# Altium footprint library CB3LV-3I-14M7456.PcbLib: 3 footprints
Each footprint in its own frame and in the unit in brackets; x right, y up, seen from the top. Pads: shape width x height; smd on the part's side, far side on the other; paste and mask are expansions set on the pad; w line width, h text height; cw(c..) or ccw(c..) is an arc to the next point about the centre after c.
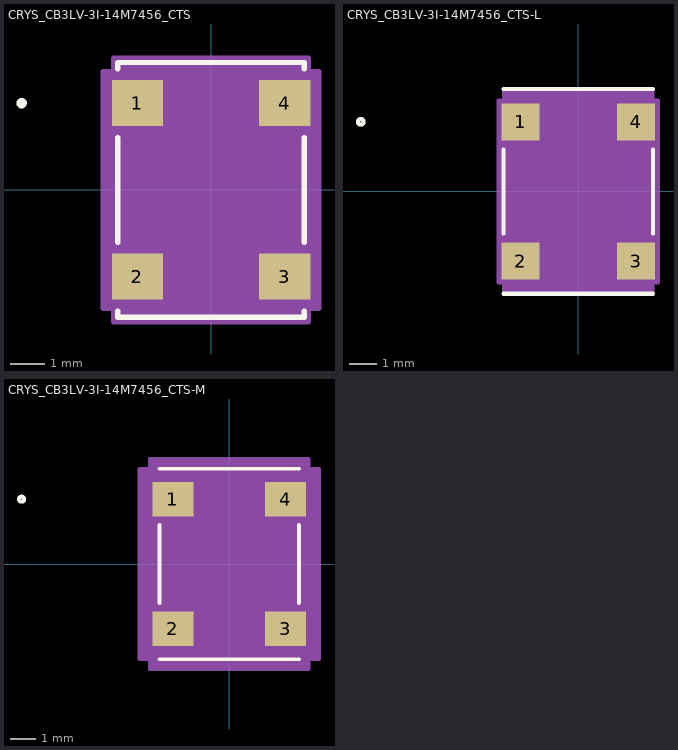
[diagram p0: the footprints below, top view; thin cyan lines are the x and y axes]

## CRYS_CB3LV-3I-14M7456_CTS [mil]
pads (4):
  rect 59x53 smd paste+0 mask+0: 1(-85,100) 2(-85,-100) 3(85,-100) 4(85,100)
Top Overlay:
  circle w6: c-218.5,100 r3
  lines w6: -107.5,-139.6 -107.5,-147 107.5,-147 107.5,-139.6 ; -107.5,-60.4 -107.5,60.4 ; -107.5,139.6 -107.5,147 107.5,147 107.5,139.6 ; 107.5,-60.4 107.5,60.4
Mechanical 13:
  circle w6: c-55.5,100 r0
  lines w0: -12,142 ccw(c0,142) 12,142
  lines w1: -102.5,-142 102.5,-142 102.5,142 -102.5,142 -102.5,-142
Mechanical 15:
  region: -112.5,-136.5 -124.5,-136.5 -124.5,136.5 -112.5,136.5 -112.5,152 112.5,152 112.5,136.5 124.5,136.5 124.5,-136.5 112.5,-136.5 112.5,-152 -112.5,-152
  lines w6: -124.5,-136.5 -124.5,136.5 -112.5,136.5 -112.5,152 112.5,152 112.5,136.5 124.5,136.5 124.5,-136.5 112.5,-136.5 112.5,-152 -112.5,-152 -112.5,-136.5 -124.5,-136.5
3D body "CRYS_CB3LV-3I-14M7456_CTS.step": height 71.1, standoff 0, extent -102.52,-142.01 102.52,142.01

## CRYS_CB3LV-3I-14M7456_CTS-L [mil]
pads (4):
  rect 55x53 smd paste+0 mask+0: 1(-83,100) 2(-83,-100) 3(83,-100) 4(83,100)
Top Overlay:
  circle w6: c-312.5,100 r4
  lines w6: -107.5,-147 107.5,-147 ; -107.5,-60.4 -107.5,60.4 ; -107.5,147 107.5,147 ; 107.5,-60.4 107.5,60.4
Mechanical 13:
  circle w0: c-55.5,100 r3
  lines w0: -12,142 ccw(c0,142) 12,142
  lines w1: -102.5,-142 102.5,-142 102.5,142 -102.5,142 -102.5,-142
Mechanical 15:
  region: -106.5,-130.5 -114.5,-130.5 -114.5,130.5 -106.5,130.5 -106.5,146 106.5,146 106.5,130.5 114.5,130.5 114.5,-130.5 106.5,-130.5 106.5,-146 -106.5,-146
  lines w6: -114.5,-130.5 -114.5,130.5 -106.5,130.5 -106.5,146 106.5,146 106.5,130.5 114.5,130.5 114.5,-130.5 106.5,-130.5 106.5,-146 -106.5,-146 -106.5,-130.5 -114.5,-130.5
3D body "CRYS_CB3LV-3I-14M7456_CTS.step": height 71.1, standoff 0, extent -102.52,-142.01 102.52,142.01

## CRYS_CB3LV-3I-14M7456_CTS-M [mil]
pads (4):
  rect 63x53 smd paste+0 mask+0: 1(-87,100) 2(-87,-100) 3(87,-100) 4(87,100)
Top Overlay:
  circle w6: c-320.5,100 r4
  lines w6: -107.5,-147 107.5,-147 ; -107.5,-60.4 -107.5,60.4 ; -107.5,147 107.5,147 ; 107.5,-60.4 107.5,60.4
Mechanical 13:
  circle w0: c-55.5,100 r3
  lines w0: -12,142 ccw(c0,142) 12,142
  lines w1: -102.5,-142 102.5,-142 102.5,142 -102.5,142 -102.5,-142
Mechanical 15:
  region: -122.5,-146.5 -138.5,-146.5 -138.5,146.5 -122.5,146.5 -122.5,162 122.5,162 122.5,146.5 138.5,146.5 138.5,-146.5 122.5,-146.5 122.5,-162 -122.5,-162
  lines w6: -138.5,-146.5 -138.5,146.5 -122.5,146.5 -122.5,162 122.5,162 122.5,146.5 138.5,146.5 138.5,-146.5 122.5,-146.5 122.5,-162 -122.5,-162 -122.5,-146.5 -138.5,-146.5
3D body "CRYS_CB3LV-3I-14M7456_CTS.step": height 71.1, standoff 0, extent -102.52,-142.01 102.52,142.01